# Altium footprint library Smart Card Connectors.PcbLib: 2 footprints
Each footprint in its own frame and in the unit in brackets; x right, y up, seen from the top. Pads: shape width x height; smd on the part's side, far side on the other; paste and mask are expansions set on the pad; w line width, h text height; cw(c..) or ccw(c..) is an arc to the next point about the centre after c.
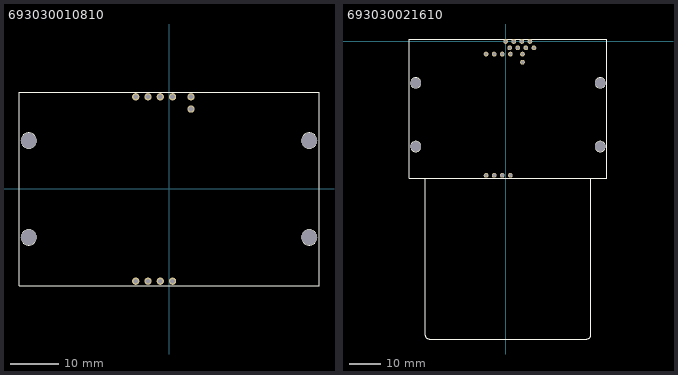
[diagram p0: the footprints below, top view; thin cyan lines are the x and y axes]

## 693030010810 [mm] "WR-CRD Smart Card_Header type_8 pins of Signal Contacts_2 pins of Switch Contacts_with Card Detection Switch(Normally Closed)_Height above PCB 6.50mm"
height 6.5
pads (14):
  round 1.5 hole 1: 1(-6.88,19.05) 2(-4.34,19.05) 3(-1.8,19.05) 4(0.74,19.05) 5(4.55,19.05) 6(4.55,16.51) 7(0.74,-19.05) 8(-1.8,-19.05) 9(-4.34,-19.05) 10(-6.88,-19.05)
  round 3.2 hole 3.2 unplated: ""(-29,-10) ""(-29,10) ""(29,-10) ""(29,10)
Top Overlay:
  circle w0.127: c-29,10 r1.6
  circle w0.127: c-29,-10 r1.6
  circle w0.127: c29,-10 r1.6
  circle w0.127: c29,10 r1.6
  lines w0.127: -31,-20 31,-20 31,20 -31,20 -31,-20
3D body: height 6.51, standoff -4.89, extent -31,-20 31,20

## 693030021610 [mm] "WR-CRD Smart Card_Dual-way Header type_16 pins of Signal Contacts_2 pins of Switch Contatcs_ with Card Detection (Normally Closed)_Height above PCB 8.00mm"
height 8
pads (22):
  round 1.5 hole 1: 5(5.29,-3.97) 6(5.29,-6.51) A1(-6.14,-3.97) A2(-3.6,-3.97) A3(-1.06,-3.97) A4(1.48,-3.97) A7(1.48,-42.07) A8(-1.06,-42.07) A9(-3.6,-42.07) A10(-6.14,-42.07) B1(7.62,0) B2(5.08,0) B3(2.54,0) B4(0,0) B7(1.27,-2) B8(3.81,-2) B9(6.35,-2) B10(8.89,-2)
  round 3.2 hole 3.2 unplated: ""(-28.26,-33.02) ""(-28.26,-13.02) ""(29.74,-33.02) ""(29.74,-13.02)
Top Overlay:
  circle w0.127: c-28.26,-33.02 r1.6
  circle w0.127: c29.74,-33.02 r1.6
  circle w0.127: c29.74,-33.02 r1.6
  circle w0.127: c29.74,-13.02 r1.6
  circle w0.127: c-28.26,-13.02 r1.6
  circle w0.127: c-28.26,-13.02 r1.6
  lines w0.127: -25.26,-43.02 -25.26,-92.27 ccw(c-24.01,-92.27) -24.01,-93.52 25.49,-93.52 ccw(c25.49,-92.27) 26.74,-92.27 26.74,-43.02 ; -30.26,-43.02 31.74,-43.02 31.74,0.78 -30.26,0.78 -30.26,-43.02
3D body: height 8.01, standoff -3.29, extent -30.26,-43.02 31.74,0.78